# EAGLE library part SST26VFXXXB (library SM)
Flash Serial 3V 32Mbit 32M x 1Bit 8-Pin SOIJ
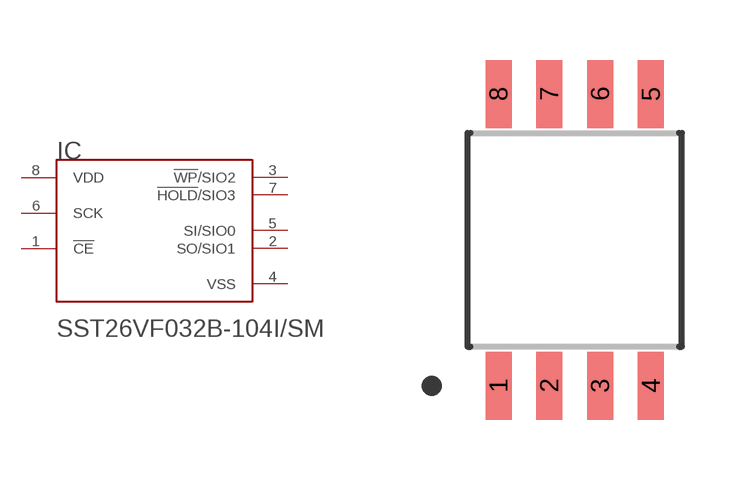
[diagram p0: symbol with the pads of MICROCHIP_SOIJ-08; footprint MICROCHIP_SOIJ-08]

Designator prefix IC

## SST26VFXXXBB (AMBIENT_TEMPERATURE_RANGE_HIGH: +85°C; AMBIENT_TEMPERATURE_RANGE_LOW: -40°C; CENTROID_NOT_SPECIFIED: Yes; DATASHEET: http://ww1.microchip.com/downloads/en/DeviceDoc/SST26VF032B-SST26VF032BA-3.0V-Serial-Quad-IO-(SQI)-Flash-Memory-DS20005218F.pdf; DEVICE_CLASS_L1: Integrated Circuits (ICs); DEVICE_CLASS_L2: Memory; DEVICE_CLASS_L3: Flash; DIGIKEY_DESCRIPTION: IC FLASH 32MBIT 104MHZ 8SOIC; DIGIKEY_PART_NUMBER: SST26VF032B-104I/SM-ND; FOOTPRINT_URL: http://ww1.microchip.com/downloads/en/DeviceDoc/8L_SOIJ_Medium_5_28_SM_C04-056C.pdf; FREQUENCY: 104MHz; HEIGHT: 2.03mm; INTERFACE: SPI; LEAD_FREE: yes; MAX_SUPPLY_VOLTAGE: 3.6V; MEMORY_SIZE: 32MB; MEMORY_TYPE: FLASH; MF: Microchip; MFG_PACKAGE_IDENT: C04-056C; MFG_PACKAGE_IDENT_DATE: 10/2017; MFG_PACKAGE_IDENT_REV: 0; MIN_SUPPLY_VOLTAGE: 2.7V; MOUSER_DESCRIPTION: SST26VF032 Series 32 Mb (4M x 8) 3.6 V Serial Quad I/O Flash Memory - SOIJ-8; MOUSER_PART_NUMBER: 579-ST26VF032B104ISM; MPN: SST26VF032B-104I/SM; PACKAGE: SOIJ8; PREFIX: U; ROHS: yes; STANDOFF_HEIGHT: 0.25mm; TEMPERATURE_RANGE_HIGH: +85°C; TEMPERATURE_RANGE_LOW: -40°C)  [MICROCHIP_SOIJ-08]
1  !CE!  in
2  SO/SIO1
3  !WP!/SIO2  pas
4  VSS  pwr
5  SI/SIO0
6  SCK  in
7  !HOLD!/SIO3  in
8  VDD  pwr

## SST26VFXXXBBEUI (MOUSER_PART_NUMBER: 579-6VF032BEUI104ISM)  [MICROCHIP_SOIJ-08]
Pads as for MICROCHIP_SOIJ-08

## Footprint MICROCHIP_SOIJ-08 (pad centres in mm)
Microchip 8-Pin SOIJ Datasheet
smd 0.65 x 1.7: 1 -1.905,-3.65; 2 -0.635,-3.65; 3 0.635,-3.65; 4 1.905,-3.65; 5 1.905,3.65; 6 0.635,3.65; 7 -0.635,3.65; 8 -1.905,3.65